# EAGLE library part TLC5916 (library zlalanne)
TLC5916 8-Channel Constant-Current LED Sink Drivers Datasheet <http://www.ti.com/lit/ds/symlink/tlc5916.pdf>
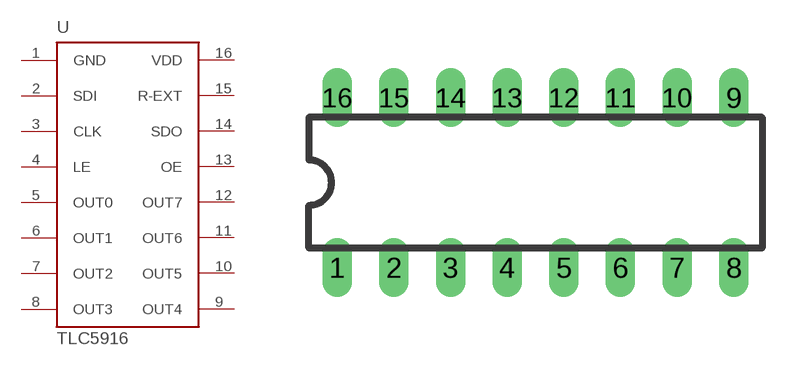
[diagram p0: symbol with the pads of DIL16; footprint DIL16]

Designator prefix -

## TLC5916IN  [DIL16]
1  GND  pwr
2  SDI  in
3  CLK  in
4  LE  in
5  OUT0  out
6  OUT1  out
7  OUT2  out
8  OUT3  out
9  OUT4  out
10  OUT5  out
11  OUT6  out
12  OUT7  out
13  OE  in
14  SDO  out
15  R-EXT  in
16  VDD  pwr

## Footprint DIL16 (pad centres in mm)
Dual In Line Package
drill 0.813 long: 1 -8.89,-3.81; 2 -6.35,-3.81; 3 -3.81,-3.81; 4 -1.27,-3.81; 5 1.27,-3.81; 6 3.81,-3.81; 7 6.35,-3.81; 8 8.89,-3.81; 9 8.89,3.81; 10 6.35,3.81; 11 3.81,3.81; 12 1.27,3.81; 13 -1.27,3.81; 14 -3.81,3.81; 15 -6.35,3.81; 16 -8.89,3.81